# EAGLE library part PYCOM-W01-OEM (library PYCOM-OEM)
Pycom WiPy Module with dual Bluetooth, WiFi based upon an ESP32 from Espressif
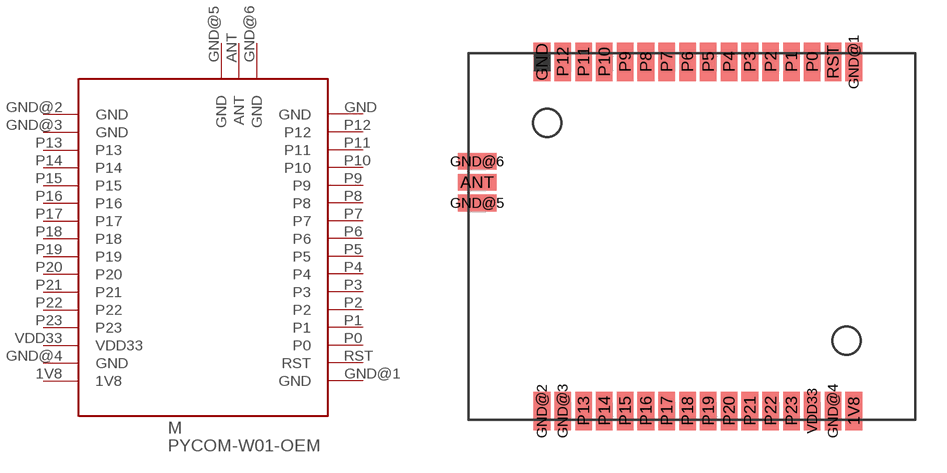
[diagram p1: symbol with the pads of W01_OEM; footprint W01_OEM]

Designator prefix M

## PYCOM-W01-OEM  [W01_OEM]
1V8  1V8
ANT  ANT
GND  GND
GND@1  GND
GND@2  GND
GND@3  GND
GND@4  GND
GND@5  GND
GND@6  GND
P0  P0
P1  P1
P2  P2
P3  P3
P4  P4
P5  P5
P6  P6
P7  P7
P8  P8
P9  P9
P10  P10
P11  P11
P12  P12
P13  P13
P14  P14
P15  P15
P16  P16
P17  P17
P18  P18
P19  P19
P20  P20
P21  P21
P22  P22
P23  P23
RST  RST
VDD33  VDD33

## Footprint W01_OEM (pad centres in mm)
Pycom WiPy PCB Footprint
smd 0.8 x 1.85: 1V8 18.54,0.425; GND 3.54,17.225; GND@1 18.54,17.225; GND@2 3.54,0.425; GND@3 4.54,0.425; GND@4 17.54,0.425; P0 16.54,17.225; P1 15.54,17.225; P2 14.54,17.225; P3 13.54,17.225; P4 12.54,17.225; P5 11.54,17.225; P6 10.54,17.225; P7 9.54,17.225; P8 8.54,17.225; P9 7.54,17.225; P10 6.54,17.225; P11 5.54,17.225; P12 4.54,17.225; P13 5.54,0.425; P14 6.54,0.425; P15 7.54,0.425; P16 8.54,0.425; P17 9.54,0.425; P18 10.54,0.425; P19 11.54,0.425; P20 12.54,0.425; P21 13.54,0.425; P22 14.54,0.425; P23 15.54,0.425; RST 17.54,17.225; VDD33 16.54,0.425
smd 1.85 x 0.8: ANT 0.425,11.43; GND@5 0.425,10.43; GND@6 0.425,12.43